# Altium footprint library PKY_LIB.PcbLib: 59 footprints (part 3 of 5)
Each footprint in its own frame and in the unit in brackets; x right, y up, seen from the top. Pads: shape width x height; smd on the part's side, far side on the other; paste and mask are expansions set on the pad; w line width, h text height; cw(c..) or ccw(c..) is an arc to the next point about the centre after c.
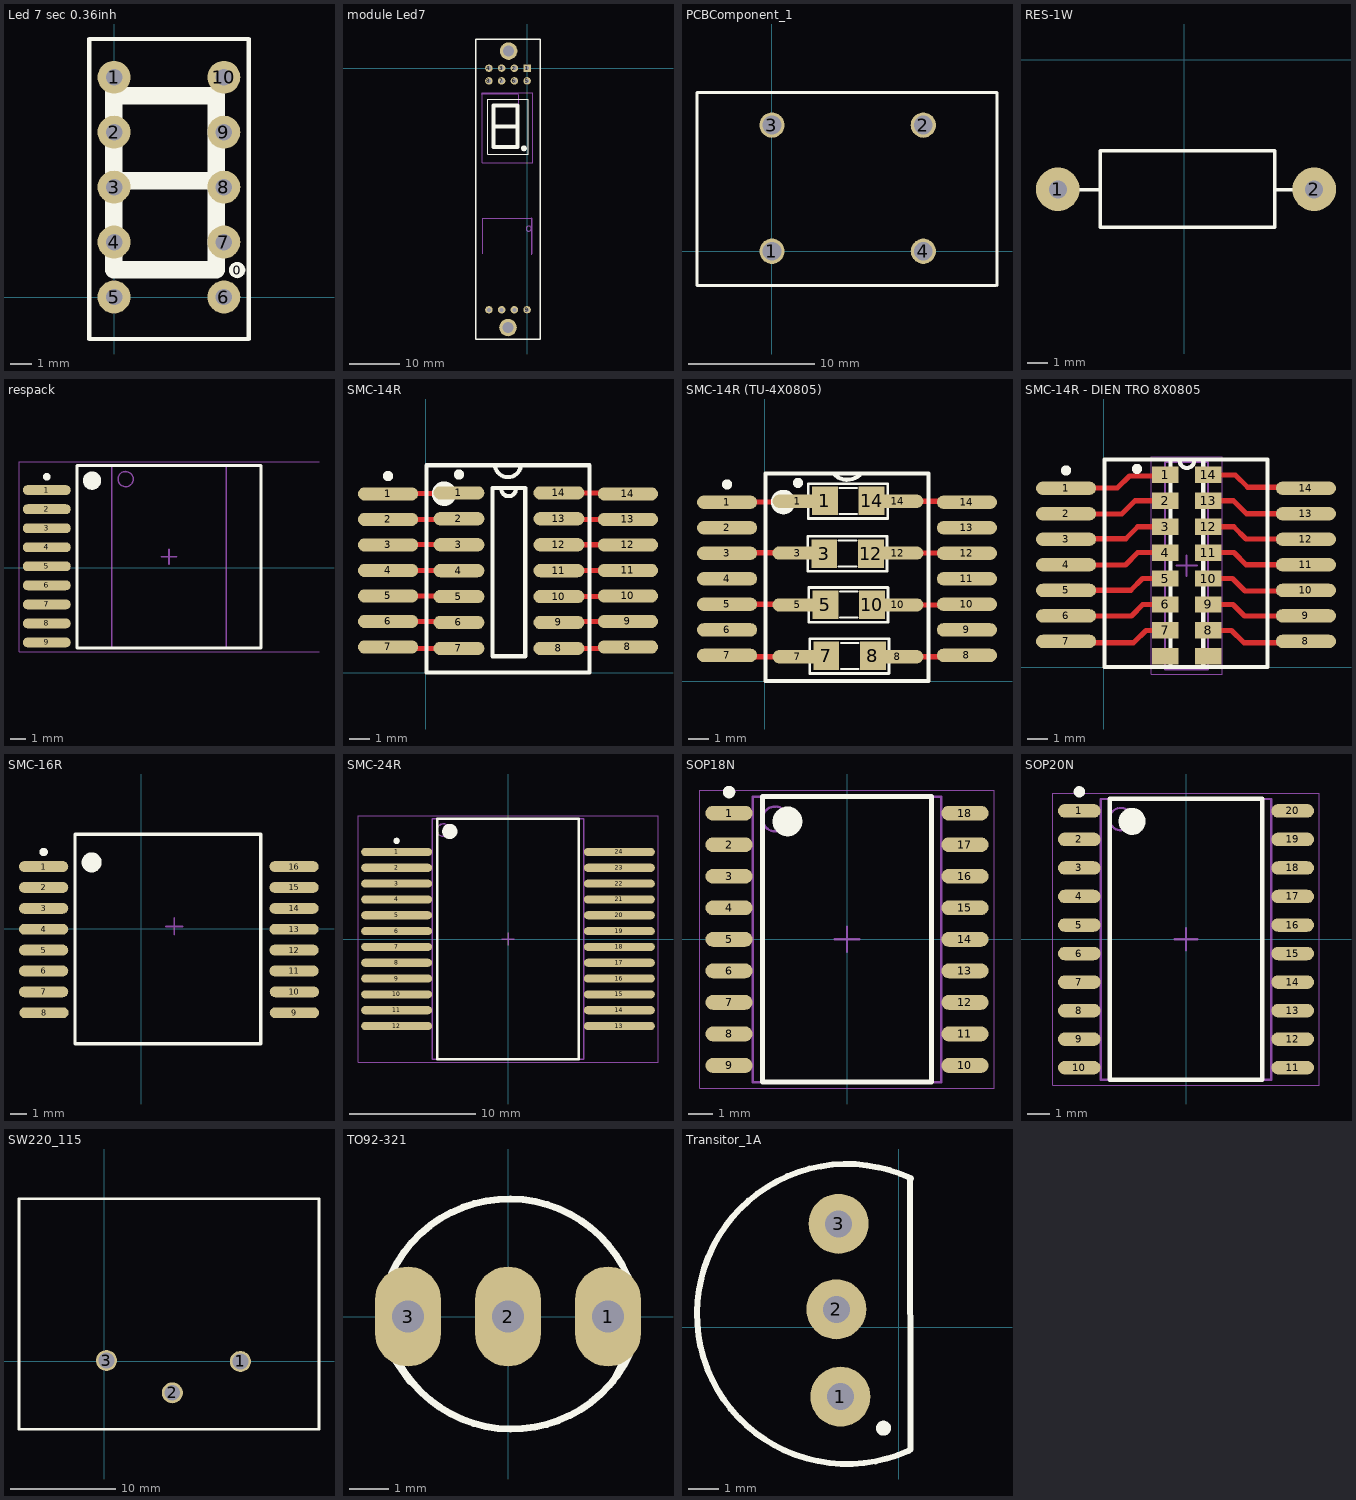
[diagram p2: the footprints below, top view; thin cyan lines are the x and y axes]

## Led 7 sec 0.36inh [mil]
pads (11):
  round 30 on Top Overlay: 0(224.05,49.05)
  round 60 hole 30: 1(0.01,400) 2(0.01,300) 3(0.01,200) 4(0.01,100) 5(0.01,0) 6(200,0) 7(200,100) 8(200,200) 9(200,300) 10(200,400)
Top Layer:
  lines w10: -2.45,60.24 117.55,60.24 ; 12.55,60.24 132.55,60.24
Top Overlay:
  lines w7.87: -44.98,-76.44 -44.98,469.59 245.16,469.59 245.16,-76.44 -44.98,-76.44
  lines w31.5: -0.48,374.4 -0.48,49.71 186.19,49.71 186.19,366.24 140.3,366.24 140.45,366.09 1.24,366.09 ; 2.12,211.38 186.12,211.38
3D body: height 204.72, standoff 3.94, extent -34.6,-3.09 40.28,399.84
3D body: height 204.72, standoff 3.94, extent 150.39,-1.77 230.4,397.83
3D body: height 204.72, standoff 3.94, extent 9.81,374.74 215.19,400.09
3D body: height 204.72, standoff 3.94, extent -4.35,-3.03 180.01,23.78
3D body: height 200.79, standoff 3.94, extent -48.75,-80.51 249.16,473.26
3D body: height 204.72, standoff 3.94, extent 0.95,192.93 191.75,218.27
3D body: height 150, standoff -100, extent -9.31,289.92 8.58,308.76
3D body: height 150, standoff -100, extent 191.71,289.92 209.59,308.76
3D body: height 150, standoff -100, extent 191.3,190.42 209.19,209.26
3D body: height 150, standoff -100, extent -9.31,190.42 8.58,209.26
3D body: height 150, standoff -100, extent 191.7,89.71 209.59,108.55
3D body: height 150, standoff -100, extent -8.91,90.52 8.98,109.36
3D body: height 150, standoff -100, extent 191.7,-9.79 209.59,9.05
3D body: height 150, standoff -100, extent -9.31,-8.98 8.58,9.86
3D body: height 150, standoff -100, extent -9.71,390.23 8.17,409.07
3D body: height 150, standoff -100, extent 191.3,390.23 209.19,409.07

## module Led7 [mm]
pads (15):
  round 1.2 on Top Overlay: 0(-0.635,-16.002)
  rect 1.5x1.5 hole 0.8: 1(0,0.025)
  round 1.5 hole 0.8: 2(-2.54,0) 3(-5.08,0.025) 4(-7.62,0) 5(0,-2.54) 6(-2.54,-2.54) 7(-5.08,-2.54) 8(-7.62,-2.54) 9(0,-48.26) 10(-2.54,-48.26) 11(-5.08,-48.26) 12(-7.62,-48.26)
  round 3.5 hole 2.2: ""(-3.81,-51.816) ""(-3.683,3.429)
Top Layer:
  lines w0.254: -6.731,-15.748 -3.683,-15.748 ; -6.35,-16.002 -3.302,-16.002
Top Overlay:
  lines w0.2: -7.874,-17.145 0.254,-17.145 0.254,-6.223 -7.874,-6.223 -7.874,-17.145
  lines w0.254: -10.287,-54.102 -10.287,5.842 2.667,5.842 2.667,-54.102 -10.287,-54.102
  lines w0.8: -6.579,-11.684 -1.905,-11.684 ; -6.706,-15.748 -1.905,-15.748 -1.905,-7.493 -3.105,-7.493 -6.706,-7.493 -6.706,-15.748
Mechanical 13:
  circle w0.1: c0.325,-32.047 r0.5
  lines w0.1: -8.89,-37.117 -8.89,-29.972 1.016,-29.972 1.016,-37.084 ; -8.984,-18.923 1.143,-18.923 1.143,-4.906 -8.984,-4.906 -8.984,-18.923
Mechanical 15:
  lines w0.05: -9.161,-5.129 -1.761,-5.129 ; -1.634,-14.556 -1.634,-5.256 ; 0.967,-37.228 0.967,-29.828
3D body: height 31, standoff 30, extent -0.571,-39.497 -0.19,-36.957
3D body: height 31, standoff 30, extent -2.921,-39.497 -2.54,-36.957
3D body: height 31, standoff 30, extent -1.714,-39.497 -1.333,-36.957
3D body: height 31, standoff 30, extent -6.413,-39.497 -6.032,-36.957
3D body: height 31, standoff 30, extent -7.62,-39.497 -7.239,-36.957
3D body: height 31, standoff 30, extent -5.27,-39.497 -4.889,-36.957
3D body: height 31, standoff 30, extent -4.127,-39.497 -3.746,-36.957
3D body: height 15, standoff 14, extent -10.287,-53.975 2.667,5.842
3D body: height 32, standoff 11, extent -0.508,-24.409 0.508,-23.393
3D body: height 32, standoff 11, extent -8.128,-24.409 -7.112,-23.393
3D body: height 32, standoff 11, extent -0.508,-21.869 0.508,-20.853
3D body: height 32, standoff 11, extent -8.128,-21.869 -7.112,-20.853
3D body: height 32, standoff 30, extent -8.89,-18.669 1.016,-5.08
3D body: height 32, standoff 30, extent -8.763,-36.957 0.889,-30.099
3D body: height 33, standoff 30, extent -0.508,-17.018 0.508,-16.002
3D body: height 33, standoff 30, extent -6.858,-12.382 -1.27,-10.731
3D body: height 30, standoff 29, extent -10.287,-49.657 2.667,1.143
3D body: height 33, standoff 30, extent -6.731,-17.018 -1.524,-15.367
3D body: height 33, standoff 30, extent -6.35,-8.128 -0.889,-6.477
3D body: height 33, standoff 30, extent -3.451,-17.018 -0.458,-6.477
3D body: height 33, standoff 30, extent -7.714,-17.018 -4.859,-6.477
3D body: height 31, standoff 30, extent -4,-30.099 -3.619,-27.559
3D body: height 31, standoff 30, extent -5.143,-30.099 -4.762,-27.559
3D body: height 31, standoff 30, extent -7.493,-30.099 -7.112,-27.559
3D body: height 31, standoff 30, extent -6.286,-30.099 -5.905,-27.559
3D body: height 31, standoff 30, extent -1.587,-30.099 -1.206,-27.559
3D body: height 31, standoff 30, extent -2.794,-30.099 -2.413,-27.559
3D body: height 31, standoff 30, extent -0.444,-30.099 -0.063,-27.559
3D body: height 32, standoff -10, extent -0.508,-48.768 0.508,-47.752
3D body: height 32, standoff -10, extent -3.048,-48.768 -2.032,-47.752
3D body: height 32, standoff -10, extent -5.588,-48.768 -4.572,-47.752
3D body: height 32, standoff -10, extent -8.128,-48.768 -7.112,-47.752
3D body: height 32, standoff 11, extent -0.508,-46.228 0.508,-45.212
3D body: height 32, standoff 11, extent -3.048,-46.228 -2.032,-45.212
3D body: height 32, standoff 11, extent -5.588,-46.228 -4.572,-45.212
3D body: height 32, standoff 11, extent -8.128,-46.228 -7.112,-45.212
3D body: height 32, standoff -10, extent -0.508,-3.048 0.508,-2.032
3D body: height 32, standoff -10, extent -3.048,-3.048 -2.032,-2.032
3D body: height 32, standoff -10, extent -5.588,-3.048 -4.572,-2.032
3D body: height 32, standoff -10, extent -8.128,-3.048 -7.112,-2.032
3D body: height 32, standoff -10, extent -0.508,-0.508 0.508,0.508
3D body: height 32, standoff -10, extent -3.048,-0.508 -2.032,0.508
3D body: height 32, standoff -10, extent -5.588,-0.508 -4.572,0.508
3D body: height 32, standoff -10, extent -8.128,-0.508 -7.112,0.508

## PCBComponent_1 [mm]
pads (4):
  round 2 hole 1.5: 1(0,0) 2(12,10) 3(0,10) 4(12,0)
Top Overlay:
  lines w0.254: 17.738,-2.704 8.461,-2.704 -5.944,-2.704 -5.944,12.577 17.845,12.577 17.845,-2.698

## PCBComponent_1 - duplicate [mm]

## RES-1W [mil] "R2W, 2 pin, 700mil"
height 200
pads (2):
  round 85 hole 35: 1(-246.85,-252.76) 2(253.15,-252.76)
Top Overlay:
  lines w7: -204.85,-253.76 -163.85,-253.76 ; 176.15,-253.76 214.15,-253.76 ; -163.85,-326.57 176.15,-326.57 176.15,-177.76 -163.85,-177.76 -163.85,-326.57
3D body "User Library-Res50-Axial 0_5W-3_3K.step": height 188.98, standoff -180.12, extent -261.61,-326.57 267.92,-178.93

## respack [mm]
pads (9):
  oval 3.15x0.65 smd: 1(5.25,5.1) 2(5.25,3.85) 3(5.25,2.6) 4(5.25,1.35) 5(5.25,0.1) 6(5.25,-1.15) 7(5.25,-2.4) 8(5.25,-3.65) 9(5.25,-4.9)
Top Overlay:
  circle w0.25: c5.25,5.975 r0.125
  circle w0.6: c8.225,5.725 r0.3
  lines w0.2: 7.225,-5.275 7.225,6.725 19.325,6.725 19.325,-5.275 7.225,-5.275
Mechanical 13:
  circle w0.1: c10.425,5.825 r0.5
  lines w0.1: 9.525,-5.275 9.525,6.725 17.025,6.725 17.025,-5.275 9.525,-5.275
Mechanical 15:
  lines w0.05: 23.125,-5.525 3.425,-5.525 3.425,6.975 23.125,6.975
  lines w0.1: 12.775,0.725 13.775,0.725 ; 13.275,0.225 13.275,1.225
3D body "SOP125P1820X200-16N.step": height 2, standoff 0, extent 4.15,-5.275 22.4,6.725

## SMC-14R [mm]
pads (28):
  oval 2.95x0.65 smd: 1(-1.84,8.76) 2(-1.84,7.51) 3(-1.84,6.26) 4(-1.84,5.01) 5(-1.84,3.76) 6(-1.84,2.51) 7(-1.84,1.26) 8(9.91,1.26) 9(9.91,2.51) 10(9.91,3.76) 11(9.91,5.01) 12(9.91,6.26) 13(9.91,7.51) 14(9.91,8.76)
  oval 2.5x0.65 smd: 1(1.631,8.811) 2(1.631,7.541) 3(1.631,6.271) 4(1.631,5.001) 5(1.631,3.731) 6(1.631,2.461) 7(1.631,1.191) 8(6.531,1.191) 9(6.531,2.461) 10(6.531,3.731) 11(6.531,5.001) 12(6.531,6.271) 13(6.531,7.541) 14(6.531,8.811)
Top Layer:
  lines w0.254: -1.84,2.51 1.582,2.51 ; -1.84,3.76 1.602,3.76 ; -1.831,5.001 1.631,5.001 ; -1.665,1.191 1.631,1.191 ; -0.873,7.502 0.89,7.502 ; -0.823,6.287 0.765,6.287 ; -0.59,8.774 1.289,8.774 ; 6.531,1.191 9.841,1.191 ; 6.531,3.731 9.881,3.731 ; 6.531,6.271 9.899,6.271 ; 6.531,8.811 9.859,8.811 ; 6.541,5.01 9.91,5.01 ; 6.562,7.51 9.91,7.51 ; 6.581,2.51 9.91,2.51
Top Overlay:
  circle w0.25: c1.631,9.711 r0.125
  circle w0.6: c0.908,8.772 r0.3
  circle w0.25: c-1.84,9.635 r0.125
  lines w0.2: 3.401,10.108 ccw(c4.033,10.224) 4.665,10.106 ; 3.71,8.983 ccw(c4.064,9.003) 4.418,8.974 ; 0.035,0.01 8.035,0.01 8.035,10.165 0.035,10.165 0.035,0.01 ; 3.281,0.805 4.881,0.805 4.881,9.041 3.281,9.041 3.281,0.805
Mechanical 13:
  lines w0.1: 0.785,0.01 7.285,0.01

## SMC-14R (TU-4X0805) [mm]
pads (30):
  oval 2.95x0.65 smd: 1(-1.84,8.76) 2(-1.84,7.51) 3(-1.84,6.26) 4(-1.84,5.01) 5(-1.84,3.76) 6(-1.84,2.51) 7(-1.84,1.26) 8(9.91,1.26) 9(9.91,2.51) 10(9.91,3.76) 11(9.91,5.01) 12(9.91,6.26) 13(9.91,7.51) 14(9.91,8.76)
  oval 2.5x0.65 smd: 1(1.631,8.811) 3(1.631,6.271) 5(1.631,3.731) 7(1.631,1.191) 8(6.531,1.191) 10(6.531,3.731) 12(6.531,6.271) 14(6.531,8.811)
  rect 1.27x1.397 smd: 1(2.953,8.831) 3(2.92,6.248) 5(2.972,3.747) 7(3.02,1.234) 8(5.306,1.234) 10(5.258,3.747) 12(5.206,6.248) 14(5.239,8.831)
Top Layer:
  lines w0.254: -1.84,3.76 1.602,3.76 ; -1.665,1.191 1.631,1.191 ; -0.823,6.287 0.765,6.287 ; -0.59,8.774 1.289,8.774 ; 6.531,1.191 9.841,1.191 ; 6.531,3.731 9.881,3.731 ; 6.531,6.271 9.899,6.271 ; 6.531,8.811 9.859,8.811
Top Overlay:
  circle w0.25: c1.631,9.711 r0.125
  circle w0.6: c0.908,8.772 r0.3
  circle w0.25: c-1.84,9.635 r0.125
  lines w0.102: 3.632,5.613 4.495,5.613 ; 3.632,6.883 4.495,6.883 ; 3.664,8.196 4.528,8.196 ; 3.664,9.466 4.528,9.466 ; 3.683,3.112 4.547,3.112 ; 3.683,4.382 4.547,4.382 ; 3.731,0.599 4.594,0.599 ; 3.731,1.869 4.594,1.869
  lines w0.127: 2.108,5.384 5.994,5.384 5.994,7.086 2.108,7.086 2.108,5.384 ; 2.14,7.968 6.026,7.968 6.026,9.669 2.14,9.669 2.14,7.968 ; 2.159,2.883 6.045,2.883 6.045,4.585 2.159,4.585 2.159,2.883 ; 2.207,0.371 6.093,0.371 6.093,2.073 2.207,2.073 2.207,0.371
  lines w0.2: 3.373,10.164 ccw(c4.049,10.776) 4.669,10.108 ; 0.035,0.01 8.035,0.01 8.035,10.165 0.035,10.165 0.035,0.01
Mechanical 13:
  lines w0.1: 0.785,0.01 7.285,0.01
3D body "SW3dPS-smt_resistor_packages.STEP": height 0.61, standoff -0.01, extent 3.053,5.562 5.073,6.832
3D body "SW3dPS-smt_resistor_packages.STEP": height 0.61, standoff -0.01, extent 3.105,3.061 5.125,4.331
3D body "SW3dPS-smt_resistor_packages.STEP": height 0.61, standoff -0.01, extent 3.153,0.549 5.173,1.819
3D body "SW3dPS-smt_resistor_packages.STEP": height 0.61, standoff -0.01, extent 3.086,8.145 5.106,9.415

## SMC-14R - DIEN TRO 8X0805 [mm]
pads (30):
  oval 2.95x0.65 smd: 1(-1.84,8.76) 2(-1.84,7.51) 3(-1.84,6.26) 4(-1.84,5.01) 5(-1.84,3.76) 6(-1.84,2.51) 7(-1.84,1.26) 8(9.91,1.26) 9(9.91,2.51) 10(9.91,3.76) 11(9.91,5.01) 12(9.91,6.26) 13(9.91,7.51) 14(9.91,8.76)
  rect 1.3x0.8 smd: 1(3.016,9.417) 2(3.016,8.147) 3(3.023,6.873) 4(3.016,5.607) 5(3.016,4.337) 6(3.016,3.067) 7(3.016,1.797) 8(5.116,1.797) 9(5.116,3.067) 10(5.116,4.337) 11(5.116,5.607) 12(5.116,6.877) 13(5.116,8.147) 14(5.116,9.417) ""(3.016,0.527) ""(5.116,0.527)
Top Layer:
  lines w0.254: -1.84,2.51 1.314,2.51 1.358,2.51 1.915,3.067 3.016,3.067 ; -1.84,3.76 1.064,3.76 ; -1.831,5.001 1.064,5.001 1.67,5.607 1.838,5.607 3.016,5.607 ; -1.665,1.191 1.172,1.191 1.462,1.191 2.068,1.797 3.016,1.797 ; -0.873,7.502 0.89,7.502 ; -0.823,6.287 0.765,6.287 1.087,6.287 1.673,6.873 3.023,6.873 ; -0.59,8.774 0.669,8.774 1.262,9.366 2.965,9.366 3.016,9.316 ; 0.465,7.508 0.897,7.508 1.535,8.147 3.016,8.147 ; 0.899,3.763 1.322,3.763 ; 1.324,3.76 1.901,4.337 3.016,4.337 ; 5.116,1.797 6.267,1.797 6.874,1.191 9.841,1.191 ; 5.116,3.067 6.343,3.067 6.9,2.51 9.91,2.51 ; 5.116,4.337 6.32,4.337 6.927,3.731 9.881,3.731 ; 5.116,5.607 6.383,5.607 6.98,5.01 9.91,5.01 ; 5.116,6.877 6.373,6.877 6.98,6.271 9.899,6.271 ; 5.116,8.147 6.369,8.147 7.006,7.51 9.91,7.51 ; 5.116,9.417 6.453,9.417 7.059,8.811 9.859,8.811
Top Overlay:
  circle w0.1: c2.578,9.63 r0.05
  circle w0.25: c-1.84,9.635 r0.125
  circle w0.25: c1.631,9.711 r0.125
  lines w0.2: 3.725,10.089 ccw(c4.079,10.109) 4.433,10.08 ; 0.035,0.01 0.035,10.165 8.035,10.165 8.035,0.01 0.035,0.01 ; 3.281,0.004 3.281,10.165 4.881,10.165 4.881,0.004 3.281,0.004
Mechanical 13:
  lines w0.1: 0.785,0.01 7.285,0.01 ; 3.016,-0.113 5.116,-0.113 5.116,0.252 cw(c5.116,0.527) 5.116,0.802 5.116,1.522 cw(c5.116,1.797) 5.116,2.072 5.116,2.792 cw(c5.116,3.067) 5.116,3.342 5.116,4.062 cw(c5.116,4.337) 5.116,4.612 5.116,5.332 cw(c5.116,5.607) 5.116,5.882 5.116,6.602 cw(c5.116,6.877) 5.116,7.152 5.116,7.872 cw(c5.116,8.147) 5.116,8.422 5.116,9.142 cw(c5.116,9.417) 5.116,9.692 5.116,10.057 3.016,10.057 3.016,9.692 cw(c3.016,9.417) 3.016,9.142 3.016,8.422 cw(c3.016,8.147) 3.016,7.872 3.016,7.152 cw(c3.016,6.877) 3.016,6.602 3.016,5.882 cw(c3.016,5.607) 3.016,5.332 3.016,4.612 cw(c3.016,4.337) 3.016,4.062 3.016,3.342 cw(c3.016,3.067) 3.016,2.792 3.016,2.072 cw(c3.016,1.797) 3.016,1.522 3.016,0.802 cw(c3.016,0.527) 3.016,0.252 3.016,-0.113
Mechanical 15:
  lines w0.05: 2.331,-0.363 5.801,-0.363 5.801,10.307 2.331,10.307 2.331,-0.363
  lines w0.1: 3.566,4.972 4.566,4.972 ; 4.066,4.472 4.066,5.472
3D body: height 0.6, standoff 0, extent 3.066,-0.113 5.066,10.057

## SMC-16R [mm]
pads (16):
  oval 2.95x0.65 smd: 1(-5.854,3.72) 2(-5.854,2.47) 3(-5.854,1.22) 4(-5.854,-0.03) 5(-5.854,-1.28) 6(-5.854,-2.53) 7(-5.854,-3.78) 8(-5.825,-5.03) 9(9.159,-5.03) 10(9.159,-3.78) 11(9.142,-2.53) 12(9.142,-1.28) 13(9.142,-0.03) 14(9.142,1.22) 15(9.142,2.47) 16(9.142,3.72)
Top Overlay:
  circle w0.6: c-2.979,3.97 r0.3
  circle w0.25: c-5.854,4.595 r0.125
  lines w0.2: -3.979,-6.886 7.144,-6.886 7.144,5.656 -3.979,5.656 -3.979,-6.886
Mechanical 13:
  circle w0.1: c-2.968,3.939 r0.5
Mechanical 15:
  lines w0.1: 1.472,0.138 2.472,0.138 ; 1.972,-0.362 1.972,0.638

## SMC-24R [mm] "SOP, 24-Leads, Body 18.50x11.50mm, Pitch 1.25mm, IPC Medium Density"
height 2
pads (24):
  oval 5.6x0.65 smd: 1(-8.8,6.875) 2(-8.8,5.625) 3(-8.8,4.375) 4(-8.8,3.125) 5(-8.8,1.875) 6(-8.8,0.625) 7(-8.8,-0.625) 8(-8.8,-1.875) 9(-8.8,-3.125) 10(-8.8,-4.375) 11(-8.8,-5.625) 12(-8.8,-6.875) 13(8.8,-6.875) 14(8.8,-5.625) 15(8.8,-4.375) 16(8.8,-3.125) 17(8.8,-1.875) 18(8.8,-0.625) 19(8.8,0.625) 20(8.8,1.875) 21(8.8,3.125) 22(8.8,4.375) 23(8.8,5.625) 24(8.8,6.875)
Top Overlay:
  circle w0.6: c-4.6,8.5 r0.3
  circle w0.25: c-8.8,7.75 r0.125
  lines w0.2: -5.6,-9.5 5.6,-9.5 5.6,9.5 -5.6,9.5 -5.6,-9.5
Mechanical 13:
  circle w0.1: c-5.1,8.6 r0.5
  lines w0.1: -6,-9.5 6,-9.5 6,9.5 -6,9.5 -6,-9.5
Mechanical 15:
  lines w0.05: -11.85,-9.75 11.85,-9.75 11.85,9.75 -11.85,9.75 -11.85,-9.75
  lines w0.1: -0.5,0 0.5,0 ; 0,-0.5 0,0.5
3D body "SOP125P2220X200-24N.step": height 2, standoff 0, extent -11.125,-9.5 11.125,9.5

## SOP18N [mm] "SOP, 18-Leads, Body 11.30x7.50mm, Pitch 1.27mm, IPC Medium Density"
height 2.65
pads (18):
  oval 1.9x0.6 smd: 1(-4.75,5.08) 2(-4.75,3.81) 3(-4.75,2.54) 4(-4.75,1.27) 5(-4.75,0) 6(-4.75,-1.27) 7(-4.75,-2.54) 8(-4.75,-3.81) 9(-4.75,-5.08) 10(4.75,-5.08) 11(4.75,-3.81) 12(4.75,-2.54) 13(4.75,-1.27) 14(4.75,0) 15(4.75,1.27) 16(4.75,2.54) 17(4.75,3.81) 18(4.75,5.08)
Top Overlay:
  circle w0.6: c-2.4,4.75 r0.3
  circle w0.25: c-4.75,5.93 r0.125
  lines w0.2: -3.4,-5.75 3.4,-5.75 3.4,5.75 -3.4,5.75 -3.4,-5.75
Mechanical 13:
  circle w0.1: c-2.9,4.85 r0.5
  lines w0.1: -3.8,-5.75 3.8,-5.75 3.8,5.75 -3.8,5.75 -3.8,-5.75
Mechanical 15:
  lines w0.05: -5.925,-6 5.925,-6 5.925,6 -5.925,6 -5.925,-6
  lines w0.1: -0.5,0 0.5,0 ; 0,-0.5 0,0.5
3D body: height 2.65, standoff 0.1, extent -3.8,-5.75 3.8,5.75

## SOP20N [mm] "SOP, 20-Leads, Body 12.30x7.50mm, Pitch 1.27mm, IPC Medium Density"
height 2.65
pads (20):
  oval 1.9x0.6 smd: 1(-4.75,5.715) 2(-4.75,4.445) 3(-4.75,3.175) 4(-4.75,1.905) 5(-4.75,0.635) 6(-4.75,-0.635) 7(-4.75,-1.905) 8(-4.75,-3.175) 9(-4.75,-4.445) 10(-4.75,-5.715) 11(4.75,-5.715) 12(4.75,-4.445) 13(4.75,-3.175) 14(4.75,-1.905) 15(4.75,-0.635) 16(4.75,0.635) 17(4.75,1.905) 18(4.75,3.175) 19(4.75,4.445) 20(4.75,5.715)
Top Overlay:
  circle w0.6: c-2.4,5.25 r0.3
  circle w0.25: c-4.75,6.565 r0.125
  lines w0.2: -3.4,-6.25 3.4,-6.25 3.4,6.25 -3.4,6.25 -3.4,-6.25
Mechanical 13:
  circle w0.1: c-2.9,5.35 r0.5
  lines w0.1: -3.8,-6.25 3.8,-6.25 3.8,6.25 -3.8,6.25 -3.8,-6.25
Mechanical 15:
  lines w0.05: -5.925,-6.5 5.925,-6.5 5.925,6.5 -5.925,6.5 -5.925,-6.5
  lines w0.1: -0.5,0 0.5,0 ; 0,-0.5 0,0.5
3D body: height 2.65, standoff 0.1, extent -3.8,-6.25 3.8,6.25

## SW220_115 [mm]
pads (3):
  round 2 hole 1.5: 1(12.975,-0.012) 2(6.5,-3) 3(0.225,0.075)
Top Overlay:
  lines w0.254: -8.095,-6.465 20.459,-6.465 20.459,15.469 -4.733,15.469 -8.095,15.469 -8.095,-3.781 -8.095,-6.465

## TO92-321 [mil] "TO-92"
height 200
pads (3):
  oval 66x100 hole 32: 1(100,0) 2(0,0) 3(-100,0)
Top Overlay:
  lines w7: -116.52,43.21 cw(c0.97,-12.43) 119.94,39.97 ; -115.34,-40.24 -98,-65 ; -114.94,-34.97 ccw(c4.03,17.43) 121.52,-38.21 ; 105,-65 118,-39
3D body "SW3dPS-TO92.STEP": height 245.04, standoff -199.79, extent -108.87,-65.56 108.86,95

## Transitor_1A [mm]
pads (3):
  round 2 hole 0.9: 1(-1.943,-2.313) 2(-2.08,0.6) 3(-2.004,3.45)
Top Overlay:
  circle w0.25: c-0.508,-3.365 r0.125
  lines w0.2: 0.326,-4.119 cw(c-1.724,0.442) 0.41,4.963 ; 0.381,4.9 0.387,-4.072